# Altium schematic symbol library PJ-082BH.SchLib: 1 symbol
Pins are listed as number, name and electrical type; pins without a type are passive.

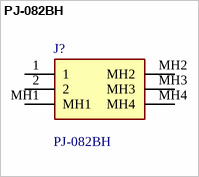
[diagram p0: symbol PJ-082BH]

## PJ-082BH
designator J?
DC Power Connectors 2.5mm x 5.5mm horz; Manufacturer_Name: CUI Devices; Geometry.Height: 10.2mm; Mouser Part Number: 490-PJ-082BH; Mouser Price/Stock: https://www.mouser.co.uk/ProductDetail/CUI-Devices/PJ-082BH?qs=WyjlAZoYn52P2Lo8hPB1tg%3D%3D; Manufacturer_Part_Number: PJ-082BH; Datasheet Link: https://www.mouser.co.uk/datasheet/2/670/pj_082bh-1779031.pdf
footprint PJ082BH
pins: 1, 2, MH1, MH2, MH3, MH4